# EAGLE library part PQ6CB11X1CP (library sharp)
Compact SMD CMOS Step-up LED Driver 6 LEDs in series Source: http://document.sharpsma.com/files/PQ6CB11X1CP.pdf
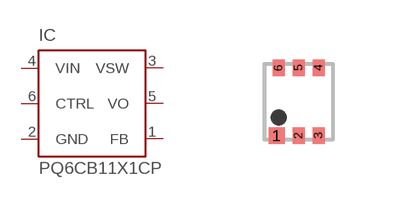
[diagram p0: symbol with the pads of PQ6CB11X1CP; footprint PQ6CB11X1CP]

Designator prefix IC

## PQ6CB11X1CP (OC_FARNELL: unknown; OC_NEWARK: unknown)  [PQ6CB11X1CP]
1  FB  in
2  GND  pwr
3  VSW  in
4  VIN  in
5  VO  out
6  CTRL  in

## Footprint PQ6CB11X1CP (pad centres in mm)
6-pin SMD 1.8 mm x 2.0 mm x 0.8 mm Source: http://document.sharpsma.com/files/PQ6CB11X1CP.pdf
smd 0.4 x 0.4: 1 -0.55,-0.85
smd 0.3 x 0.4: 2 0,-0.85; 3 0.5,-0.85; 4 0.5,0.85; 5 0,0.85; 6 -0.5,0.85